# Altium footprint library PcbLib.PcbLib: 35 footprints (part 1 of 3)
Each footprint in its own frame and in the unit in brackets; x right, y up, seen from the top. Pads: shape width x height; smd on the part's side, far side on the other; paste and mask are expansions set on the pad; w line width, h text height; cw(c..) or ccw(c..) is an arc to the next point about the centre after c.
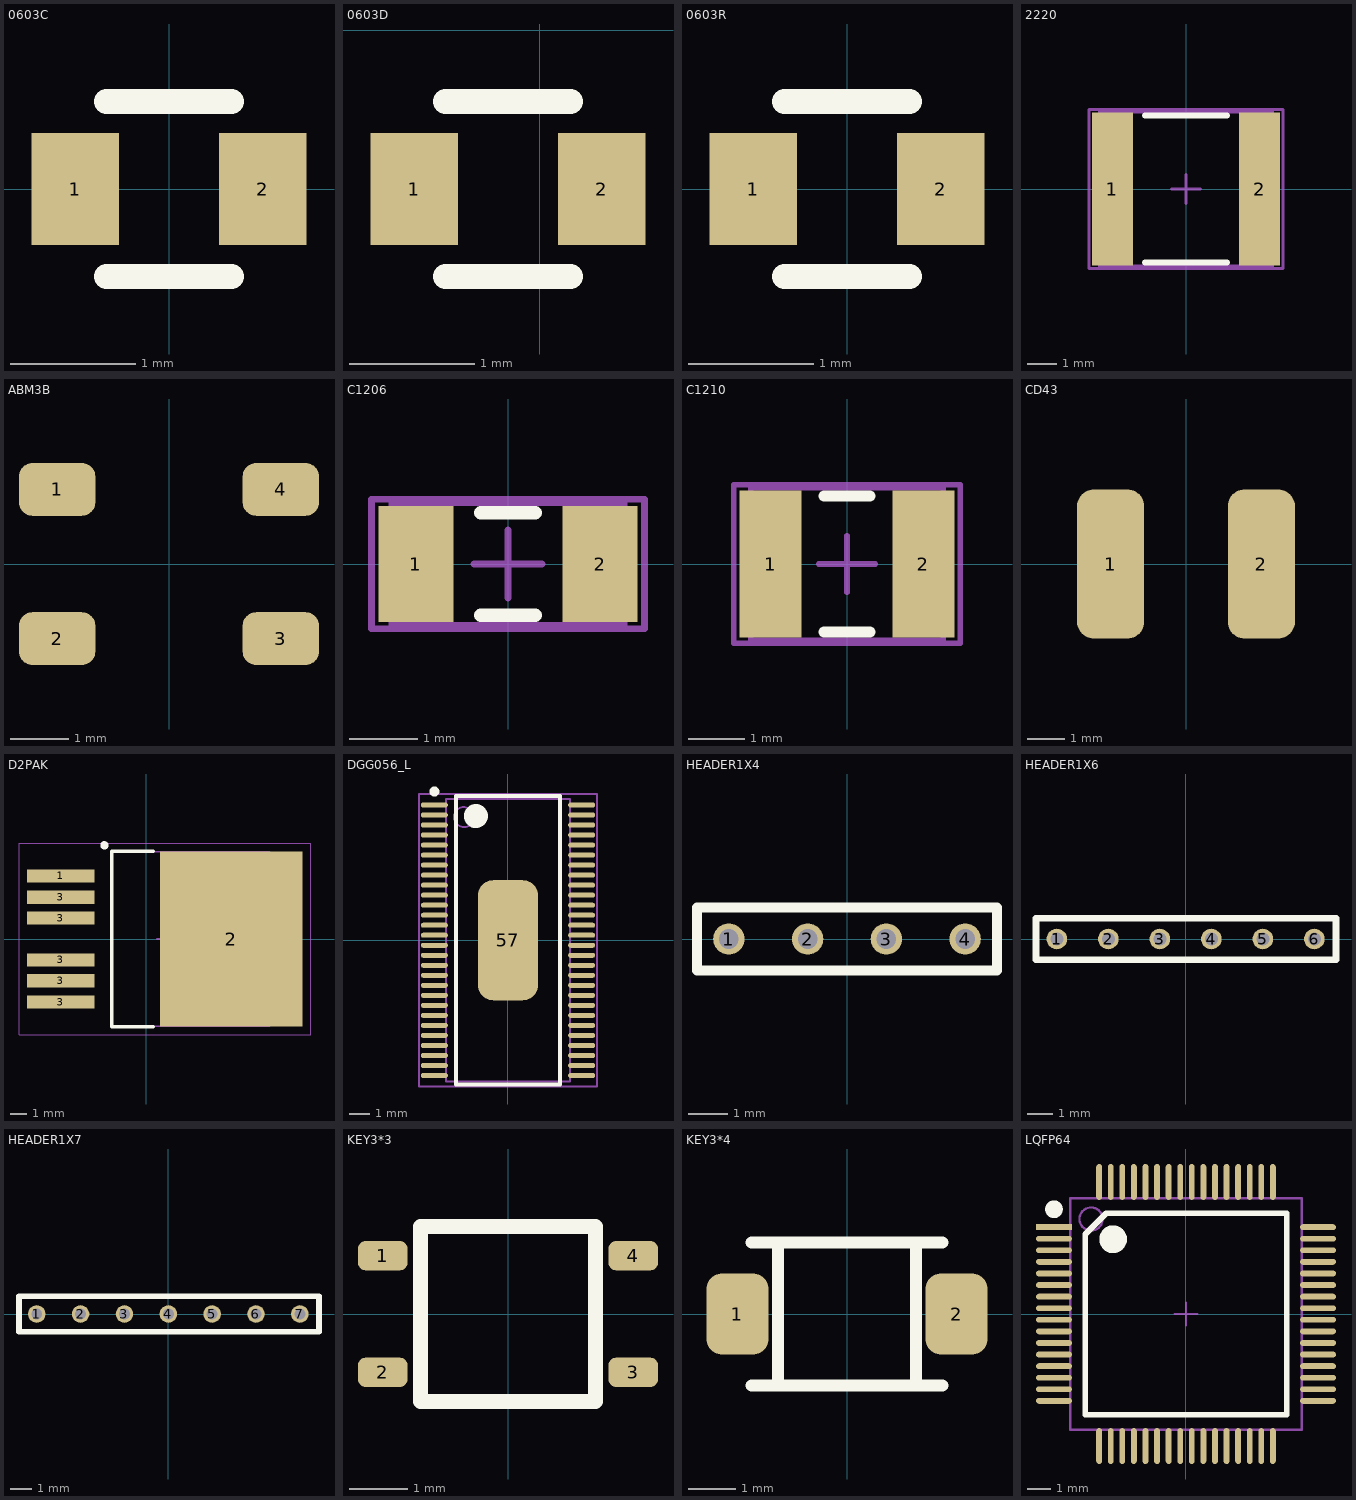
[diagram p0: the footprints below, top view; thin cyan lines are the x and y axes]

## 0603C [mm] "0603C"
pads (2):
  rect 0.7x0.9 smd: 1(-0.75,0) 2(0.75,0)
Top Overlay:
  lines w0.203: -0.5,-0.7 0.5,-0.7 ; -0.5,0.7 0.5,0.7
3D body "User Library-0603 SMD Capacitor.STEP": height 0.3, standoff 0, extent -0.8,-0.4 0.8,0.4

## 0603D [mm] "0603D"
pads (2):
  rect 0.7x0.9 smd: 1(-1.004,-1.27) 2(0.496,-1.27)
Top Overlay:
  lines w0.203: -0.754,-1.97 0.246,-1.97 ; -0.754,-0.57 0.246,-0.57
3D body "User Library-LED_0603_R.STEP": height 0.6, standoff 0, extent -1.054,-1.67 0.546,-0.87

## 0603R [mm]
pads (2):
  rect 0.7x0.9 smd: 1(-0.75,0) 2(0.75,0)
Top Overlay:
  lines w0.203: -0.5,-0.7 0.5,-0.7 ; -0.5,0.7 0.5,0.7
3D body "User Library-0603 SMD Resistor.STEP": height 0.3, standoff 0, extent -0.8,-0.4 0.8,0.4

## 2220 [mm] "Chip Capacitor, Body 5.7x5.0mm, IPC High Density"
height 1.4
pads (2):
  rect 1.4x5.2 smd: 1(-2.5,0) 2(2.5,0)
Top Overlay:
  lines w0.2: -1.4,-2.5 1.4,-2.5 ; -1.4,2.5 1.4,2.5
Mechanical 13:
  lines w0.1: -2.95,-2.625 -2.95,2.625 2.95,2.625 2.95,-2.625 -2.95,-2.625
Mechanical 15:
  lines w0.1: -0.5,0 0.5,0 ; 0,-0.5 0,0.5 ; -3.3,-2.7 -3.3,2.7 3.3,2.7 3.3,-2.7 -3.3,-2.7
3D body "User Library-CAPC5750X23.STEP": height 2.3, standoff 0, extent -2.85,-2.5 2.85,2.5

## ABM3B [mm] "ABM3B"
pads (4):
  rrect50% 1.3x0.9 smd: 1(-1.905,1.27) 2(-1.905,-1.27) 3(1.905,-1.27) 4(1.905,1.27)
3D body "User Library-ABM3B.STEP": height 1.2, standoff 0.1, extent -2.479,-1.61 2.521,1.59

## C1206 [mm] "Chip Capacitor, Body 3.2x1.6mm, IPC High Density"
height 1.3
pads (2):
  rect 1.1x1.7 smd: 1(-1.35,0) 2(1.35,0)
Top Overlay:
  lines w0.2: -0.4,-0.75 0.4,-0.75 ; -0.4,0.75 0.4,0.75
Mechanical 13:
  lines w0.1: -1.7,-0.9 -1.7,0.9 1.7,0.9 1.7,-0.9 -1.7,-0.9
Mechanical 15:
  lines w0.1: -0.5,0 0.5,0 ; 0,-0.5 0,0.5 ; -2,-0.95 -2,0.95 2,0.95 2,-0.95 -2,-0.95
3D body "SW3dPS-1206 SMD Capacitor.STEP": height 1, standoff 0, extent -1.6,-0.8 1.6,0.8

## C1210 [mm] "Chip Capacitor, Body 3.2x2.5mm, IPC High Density"
height 1.3
pads (2):
  rect 1.1x2.6 smd: 1(-1.35,0) 2(1.35,0)
Top Overlay:
  lines w0.2: -0.4,-1.2 0.4,-1.2 ; -0.4,1.2 0.4,1.2
Mechanical 13:
  lines w0.1: -1.7,-1.35 1.7,-1.35 1.7,1.35 -1.7,1.35 -1.7,-1.35
Mechanical 15:
  lines w0.1: -0.5,0 0.5,0 ; 0,-0.5 0,0.5 ; -2,-1.4 2,-1.4 2,1.4 -2,1.4 -2,-1.4
3D body "SW3dPS-CAPC3225.STEP": height 2.5, standoff 0, extent -1.6,-1.25 1.6,1.25

## CD43 [mm] "CD43"
pads (2):
  rrect50% 1.8x4 smd: 1(-2.019,0) 2(2.019,0)
3D body "User Library-CD43NP.STEP": height 3.5, standoff 0, extent -2.4,-2.15 2.4,2.15

## D2PAK [mm] "D2PAK-7PIN"
pads (7):
  rect 4.1x0.8 smd: 1(-5.2,3.85) 3(-5.2,-3.85) 3(-5.2,-2.55) 3(-5.2,-1.27) 3(-5.2,1.27) 3(-5.2,2.55)
  rect 8.7x10.7 smd: 2(5.2,0)
Top Overlay:
  circle w0.25: c-2.54,5.715 r0.125
  lines w0.2: 0.45,-5.35 -2.1,-5.35 -2.1,5.35 0.45,5.35
Mechanical 13:
  lines w0.1: -2.1,-5.325 -2.1,5.325 7.55,5.325 7.55,-5.325 -2.1,-5.325
Mechanical 15:
  lines w0.05: -7.75,-5.85 -7.75,5.85 10.05,5.85 10.05,-5.85 -7.75,-5.85
  lines w0.1: 0.65,0 1.65,0 ; 1.15,-0.5 1.15,0.5
3D body "SW3dPS-TO263-7S.STEP": height 4.98, standoff 0.18, extent -6.387,-5 9.283,5

## DGG056_L [mm] "TSSOP, 56-Leads, Body 14x6.1mm, Pitch 0.5mm, IPC High Density"
height 1.2
pads (57):
  oval 1.35x0.25 smd: 1(-3.675,6.75) 2(-3.675,6.25) 3(-3.675,5.75) 4(-3.675,5.25) 5(-3.675,4.75) 6(-3.675,4.25) 7(-3.675,3.75) 8(-3.675,3.25) 9(-3.675,2.75) 10(-3.675,2.25) 11(-3.675,1.75) 12(-3.675,1.25) 13(-3.675,0.75) 14(-3.675,0.25) 15(-3.675,-0.25) 16(-3.675,-0.75) 17(-3.675,-1.25) 18(-3.675,-1.75) 19(-3.675,-2.25) 20(-3.675,-2.75) 21(-3.675,-3.25) 22(-3.675,-3.75) 23(-3.675,-4.25) 24(-3.675,-4.75) 25(-3.675,-5.25) 26(-3.675,-5.75) 27(-3.675,-6.25) 28(-3.675,-6.75) 29(3.675,-6.75) 30(3.675,-6.25) 31(3.675,-5.75) 32(3.675,-5.25) 33(3.675,-4.75) 34(3.675,-4.25) 35(3.675,-3.75) 36(3.675,-3.25) 37(3.675,-2.75) 38(3.675,-2.25) 39(3.675,-1.75) 40(3.675,-1.25) 41(3.675,-0.75) 42(3.675,-0.25) 43(3.675,0.25) 44(3.675,0.75) 45(3.675,1.25) 46(3.675,1.75) 47(3.675,2.25) 48(3.675,2.75) 49(3.675,3.25) 50(3.675,3.75) 51(3.675,4.25) 52(3.675,4.75) 53(3.675,5.25) 54(3.675,5.75) 55(3.675,6.25) 56(3.675,6.75)
  rrect50% 3x6 smd: 57(0,0)
Top Overlay:
  circle w0.6: c-1.6,6.2 r0.3
  circle w0.25: c-3.675,7.425 r0.125
  lines w0.2: -2.6,-7.2 2.6,-7.2 2.6,7.2 -2.6,7.2 -2.6,-7.2
Mechanical 13:
  circle w0.1: c-2.2,6.15 r0.5
  lines w0.1: -3.1,-7.05 3.1,-7.05 3.1,7.05 -3.1,7.05 -3.1,-7.05
Mechanical 15:
  lines w0.1: -0.5,0 0.5,0 ; 0,-0.5 0,0.5 ; -4.45,-7.3 4.45,-7.3 4.45,7.3 -4.45,7.3 -4.45,-7.3
3D body "User Library-TSSOP56_Thermal_Pad.STEP": height 1.1, standoff 0, extent -4.1,-7 4.1,7

## HEADER1X4 [mm]
pads (4):
  round 0.8 hole 0.5: 1(-3,0) 2(-1,0) 3(1,0) 4(3,0)
Top Overlay:
  lines w0.254: -3.81,-0.8 3.81,-0.8 3.81,0.8 -3.81,0.8 -3.81,-0.8

## HEADER1X6 [mm]
pads (6):
  round 0.8 hole 0.5: 1(-5,0) 2(-3,0) 3(-1,0) 4(1,0) 5(3,0) 6(5,0)
Top Overlay:
  lines w0.254: -5.81,-0.8 -5.81,0.8 5.842,0.8 5.842,-0.8 -5.81,-0.8

## HEADER1X7 [mm]
pads (7):
  round 0.8 hole 0.5: 1(-6,0) 2(-4,0) 3(-2,0) 4(0,0) 5(2,0) 6(4,0) 7(6,0)
Top Overlay:
  lines w0.254: -6.81,-0.8 -6.81,0.8 6.874,0.8 6.874,-0.8 -6.81,-0.8

## KEY3*3 [mm] "KEY3*3"
pads (4):
  rrect50% 0.85x0.5 smd: 1(-2.15,1) 2(-2.15,-1) 3(2.15,-1) 4(2.15,1)
Top Overlay:
  lines w0.254: -1.5,-1.5 -1.5,1.5 1.5,1.5 1.5,-1.5 -1.5,-1.5

## KEY3*4 [mm] "KEY3*4"
pads (2):
  rrect50% 1.3x1.7 smd: 1(-2.3,0) 2(2.3,0)
Top Overlay:
  lines w0.254: -2,-1.5 2,-1.5 ; -2,1.5 2,1.5 ; -1.45,-1.5 -1.45,1.5 ; 1.45,-1.5 1.45,1.5
3D body "User Library-Pushbutton3x4x2.STEP": height 2, standoff 0, extent -2.45,-1.45 2.45,1.45

## LQFP64 [mm]
pads (64):
  rect 1.55x0.25 smd: 1(-5.7,3.75)
  oval 1.55x0.25 smd: 2(-5.7,3.25) 3(-5.7,2.75) 4(-5.7,2.25) 5(-5.7,1.75) 6(-5.7,1.25) 7(-5.7,0.75) 8(-5.7,0.25) 9(-5.7,-0.25) 10(-5.7,-0.75) 11(-5.7,-1.25) 12(-5.7,-1.75) 13(-5.7,-2.25) 14(-5.7,-2.75) 15(-5.7,-3.25) 16(-5.7,-3.75) 33(5.7,-3.75) 34(5.7,-3.25) 35(5.7,-2.75) 36(5.7,-2.25) 37(5.7,-1.75) 38(5.7,-1.25) 39(5.7,-0.75) 40(5.7,-0.25) 41(5.7,0.25) 42(5.7,0.75) 43(5.7,1.25) 44(5.7,1.75) 45(5.7,2.25) 46(5.7,2.75) 47(5.7,3.25) 48(5.7,3.75)
  oval 0.25x1.55 smd: 17(-3.75,-5.7) 18(-3.25,-5.7) 19(-2.75,-5.7) 20(-2.25,-5.7) 21(-1.75,-5.7) 22(-1.25,-5.7) 23(-0.75,-5.7) 24(-0.25,-5.7) 25(0.25,-5.7) 26(0.75,-5.7) 27(1.25,-5.7) 28(1.75,-5.7) 29(2.25,-5.7) 30(2.75,-5.7) 31(3.25,-5.7) 32(3.75,-5.7) 49(3.75,5.7) 50(3.25,5.7) 51(2.75,5.7) 52(2.25,5.7) 53(1.75,5.7) 54(1.25,5.7) 55(0.75,5.7) 56(0.25,5.7) 57(-0.25,5.7) 58(-0.75,5.7) 59(-1.25,5.7) 60(-1.75,5.7) 61(-2.25,5.7) 62(-2.75,5.7) 63(-3.25,5.7) 64(-3.75,5.7)
Top Overlay:
  circle w0.6: c-3.145,3.226 r0.3
  circle w0.406: c-5.7,4.521 r0.178
  lines w0.254: -4.35,-4.35 4.35,-4.35 4.35,4.35 -3.448,4.35 -4.35,3.448 -4.35,-4.35
Mechanical 13:
  circle w0.1: c-4.1,4.1 r0.5
  lines w0.1: -5,-5 5,-5 5,5 -5,5 -5,-5
Mechanical 15:
  lines w0.1: -0.5,0 0.5,0 ; 0,-0.5 0,0.5
3D body "User Library-LQFP64_Grid_0_5.STEP": height 1.6, standoff 0, extent -6,-5.974 6,6.026